# Altium schematic symbol library CON_Atmel_ISP.SchLib: 1 symbol
Pins are listed as number, name and electrical type; pins without a type are passive.

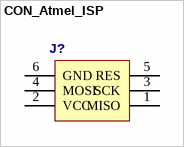
[diagram p0: symbol CON_Atmel_ISP]

## CON_Atmel_ISP
designator J?  (value not drawn)
pins: 1 MISO, 2 VCC, 3 SCK, 4 MOSI, 5 RES, 6 GND